# Altium integrated library MergenElektronik_Logics_LevelShifters.IntLib: 1 symbol
Pins are listed as number, name and electrical type; pins without a type are passive.

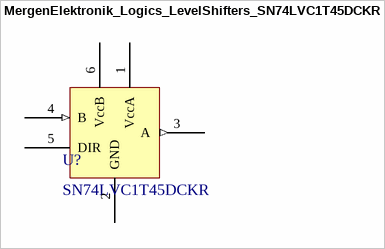
[diagram p0: symbol MergenElektronik_Logics_LevelShifters_SN74LVC1T45DCKR]

## MergenElektronik_Logics_LevelShifters_SN74LVC1T45DCKR
designator U?, comment SN74LVC1T45DCKR
Mergen Elektronik - Logics - Level Shifters - SN74LVC1T45DCKR; Manufacturer: Texas Instruments; Voltage Rated: 1.65V up to 5.5V; Digi-Key Number: 296-16844-1-ND; Manufacturer Number: SN74LVC1T45DCKR; Model: Level Shifters; Mounting Type: Surface Mount; Mouser Number: 595-SN74LVC1T45DCKR; Package: SOT-363; Temperature: -40°C up to +85°C; Value: SN74LVC1T45DCKR; Farnell Number: 3006213; Supplier 1: Mouser; Supplier 2: Digi-Key; Supplier Part Number 1: 595-SN74LVC1T45DBVR; Supplier Part Number 2: 296-16843-1-ND
footprint MergenElektronik_Logics_LevelShifters_SOT-363 (SOT-363)
pins: 1 VccA (power), 2 GND (power), 3 A (out), 4 B (in), 5 DIR, 6 VccB (power)